# EAGLE library part MICROSD (library biomimetic)
AVX 045138008010890+ microSD card connector
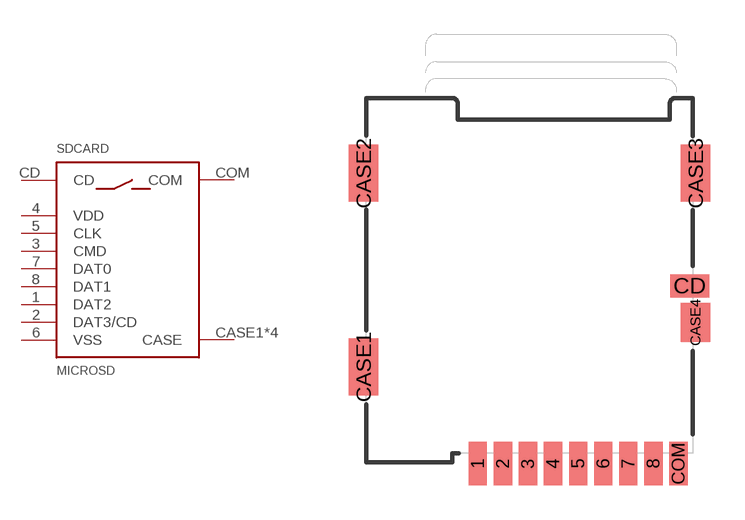
[diagram p16: symbol with the pads of AVX_045138008010890+; footprint AVX_045138008010890+]

Designator prefix SDCARD

## MICROSD (DIGIKEY: 478-4965-1-ND)  [AVX_045138008010890+]
1  DAT2
2  DAT3/CD
3  CMD
4  VDD
5  CLK
6  VSS
7  DAT0
8  DAT1
CASE1  CASE
CASE2  CASE
CASE3  CASE
CASE4  CASE
CD  CD
COM  COM

## Footprint AVX_045138008010890+ (pad centres in mm)
smd 0.8 x 1.9: 1 -2.27,-8.05; 2 -1.17,-8.05; 3 -0.07,-8.05; 4 1.03,-8.05; 5 2.13,-8.05; 6 3.23,-8.05; 7 4.33,-8.05; 8 5.43,-8.05; COM 6.53,-8.05
smd 1.3 x 2.5: CASE1 -7.28,-3.8; CASE2 -7.28,4.7; CASE3 7.28,4.7
smd 1.3 x 1.7: CASE4 7.28,-1.85
smd 1.7 x 1: CD 7.02,-0.25